# EAGLE library part MAX4172 (library WSNlib)
MAX4172 Current sense current output amplifier http://datasheets.maxim-ic.com/en/ds/MAX4172.pdf
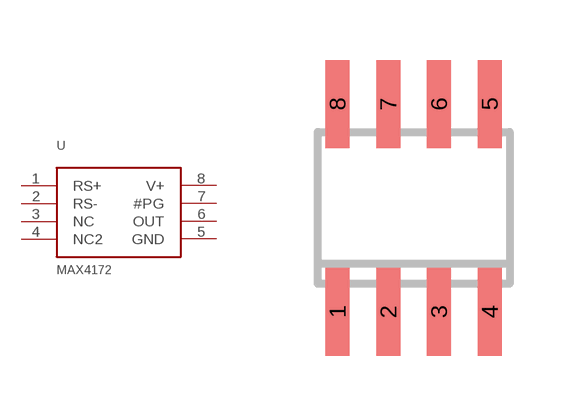
[diagram p11: symbol with the pads of SO08; footprint SO08]

Designator prefix U

## MAX4172  [SO08]
1  RS+
2  RS-
3  NC
4  NC2
5  GND
6  OUT
7  #PG
8  V+

## Footprint SO08 (pad centres in mm)
SMALL OUTLINE INTEGRATED CIRCUIT body 3.9 mm/JEDEC MS-012AA
smd 0.6 x 2.2: 1 -1.905,-2.6; 2 -0.635,-2.6; 3 0.635,-2.6; 4 1.905,-2.6; 5 1.905,2.6; 6 0.635,2.6; 7 -0.635,2.6; 8 -1.905,2.6